# Altium footprint library Discrete.PCBLIB: 128 footprints (part 7 of 8)
Each footprint in its own frame and in the unit in brackets; x right, y up, seen from the top. Pads: shape width x height; smd on the part's side, far side on the other; paste and mask are expansions set on the pad; w line width, h text height; cw(c..) or ccw(c..) is an arc to the next point about the centre after c.
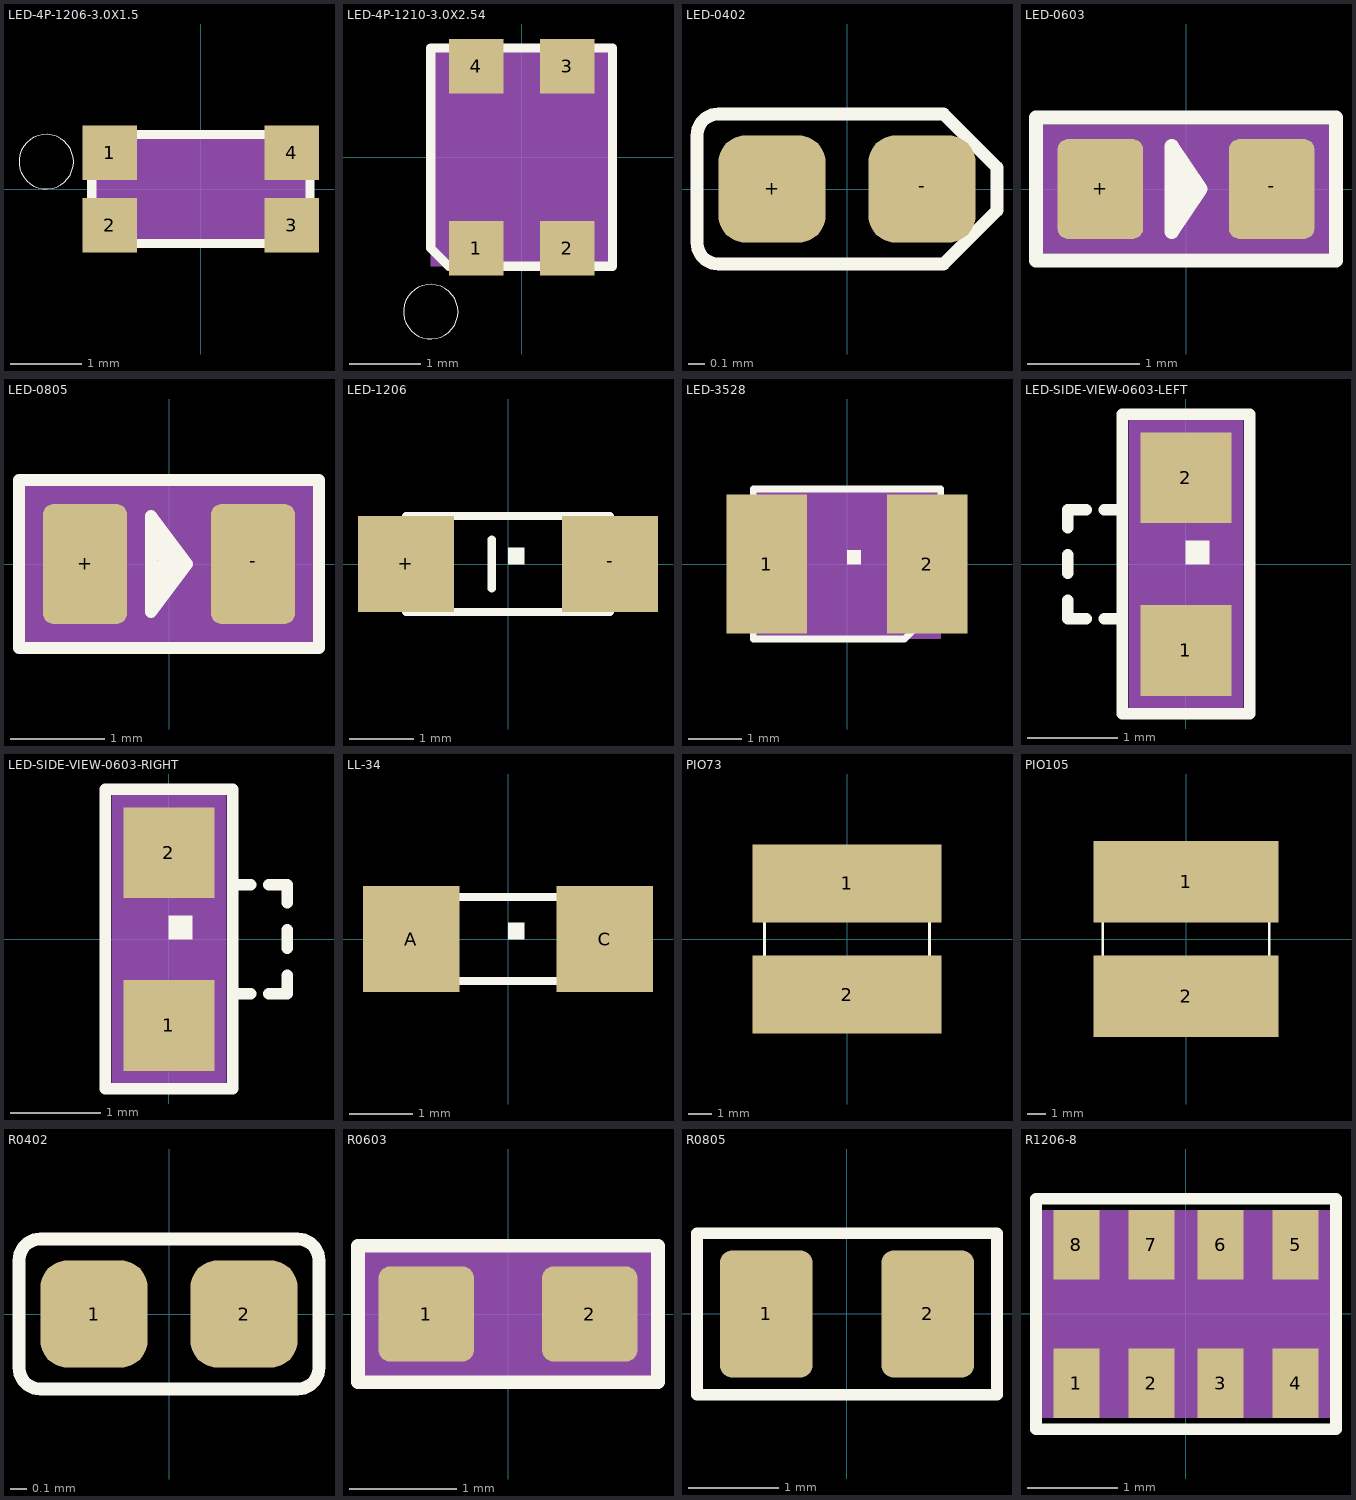
[diagram p6: the footprints below, top view; thin cyan lines are the x and y axes]

## LED-4P-1206-3.0X1.5 [mil]
pads (4):
  rect 30x30 smd: 1(-50,20) 2(-50,-20) 3(50,-20) 4(50,20)
Top Overlay:
  circle w0: c-85,15 r15
  lines w5: -60,-30 -60,20 -50,30 60,30 60,-30 -60,-30
Mechanical 27:
  region: -60,30 -60,-30 60,-30 60,30

## LED-4P-1210-3.0X2.54 [mil]
pads (4):
  rect 30x30 smd: 1(-25,-50) 2(25,-50) 3(25,50) 4(-25,50)
Top Overlay:
  circle w0: c-50,-85 r15
  lines w5: -50,-50 -40,-60 50,-60 50,60 -50,60 -50,-50
Mechanical 27:
  rectangle: -50,-60 50,60

## LED-0402 [mil]
pads (2):
  rrect50% 25x25 smd: +(-17.5,0) -(17.5,0)
Top Overlay:
  lines w3: -35,-12.5 ccw(c-30,-12.5) -30,-17.5 22.5,-17.5 35,-5 35,5 22.5,17.5 -30,17.5 ccw(c-30,12.5) -35,12.5 -35,-12.5

## LED-0603 [mil]
pads (2):
  rrect25% 30x35 smd: +(-30,0) -(30,0)
Top Overlay:
  lines w5: -2.5,-10 -2.5,10 ; 0,-7.5 -5,-15 -5,15 0,7.5 ; 0,-7.5 5,0 0,7.5 ; 0,-7.5 0,7.5 ; -52.5,-25 52.5,-25 52.5,25 -52.5,25 -52.5,-25
Mechanical 27:
  rectangle: -50,-22.5 50,22.5

## LED-0805 [mil]
pads (2):
  rrect25% 35x50 smd: +(-35,0) -(35,0)
Top Overlay:
  lines w5: -7.5,-10 -7.5,0 ; -7.5,-10 -7.5,-20 0,-10 ; -7.5,-10 0,-10 ; -7.5,0 -7.5,10 ; -7.5,0 2.5,-5 -7.5,10 ; -7.5,0 0,-10 ; -7.5,10 -7.5,20 ; -7.5,10 5,-2.5 -7.5,20 ; -7.5,20 7.5,0 0,-10 ; -62.5,-35 62.5,-35 62.5,35 -62.5,35 -62.5,-35
Mechanical 27:
  rectangle: -62.5,-35 62.5,35

## LED-1206 [mil]
pads (2):
  rect 59.06x59.06 smd: +(-62.99,0) -(62.99,0)
Top Overlay:
  region: 0,0 10,0 10,10 0,10
  lines w5: -10,-15 -10,15 ; -62.99,-29.53 62.99,-29.53 62.99,29.53 -62.99,29.53 -62.99,-29.53

## LED-3528 [mil]
pads (2):
  rect 59.06x102.36 smd: 1(-59.06,0) 2(59.06,0)
Top Overlay:
  region: 0,0 10,0 10,10 0,10
  lines w5: -68.9,-55.12 42.25,-55.12 68.9,-28.47 68.9,55.12 -68.9,55.12 -68.9,-55.12
Mechanical 27:
  rectangle: -68.9,-55.12 68.9,55.12

## LED-SIDE-VIEW-0603-LEFT [mm]
pads (2):
  rect 1x1 smd: 1(0,-0.95) 2(0,0.95)
Top Overlay:
  region: 0,0 0.254,0 0.254,0.254 0,0.254
  lines w0.127: -1.3,-0.4 -1.3,-0.6 -1.1,-0.6 ; -1.3,-0.1 -1.3,0.1 ; -1.3,0.4 -1.3,0.6 -1.1,0.6 ; -0.9,-0.6 -0.7,-0.6 ; -0.9,0.6 -0.7,0.6 ; -0.7,-0.6 -0.7,-1.65 0.7,-1.65 0.7,1.651 -0.7,1.65 -0.7,0.6 ; -0.7,-0.6 -0.7,0.6
Mechanical 27:
  region: 0.635,-1.651 0.635,1.651 -0.635,1.651 -0.635,-1.651

## LED-SIDE-VIEW-0603-RIGHT [mm]
pads (2):
  rect 1x1 smd: 1(0,-0.95) 2(0,0.95)
Top Overlay:
  region: 0,0 0.254,0 0.254,0.254 0,0.254
  lines w0.127: 0.7,-0.6 0.9,-0.6 ; 0.7,0.6 0.9,0.6 ; 1.1,-0.6 1.3,-0.6 1.3,-0.4 ; 1.1,0.6 1.3,0.6 1.3,0.4 ; 1.3,-0.1 1.3,0.1 ; -0.7,-1.65 -0.7,1.65 0.7,1.651 0.7,-1.65 -0.7,-1.65
Mechanical 27:
  region: 0.635,-1.651 0.635,1.651 -0.635,1.651 -0.635,-1.651

## LL-34 [mil]
pads (2):
  rect 60x66 smd: A(-60,0) C(60,0)
Top Overlay:
  region: 0,0 10,0 10,10 0,10
  lines w5: -66,-26 66,-26 66,26 -66,26 -66,-26

## PIO73 [mm]
pads (2):
  rect 8x3.3 smd: 1(0,2.35) 2(0,-2.35)
Top Overlay:
  lines w0.127: -3.5,-2 -3.5,2 cw(c-1.3,1.7) -1,3.9 ccw(c0,3.9) 1,3.9 cw(c1.3,1.7) 3.5,2 3.5,-2 cw(c1.3,-1.7) 1,-3.9 ccw(c0,-3.9) -1,-3.9 cw(c-1.3,-1.7) -3.5,-2

## PIO105 [mil]
pads (2):
  rect 393.7x173.23 smd: 1(0,122.05) 2(0,-122.05)
Top Overlay:
  lines w5: -177.17,-100 -177.17,100 cw(c-65.16,84.84) -50,196.85 ccw(c0,196.85) 50,196.85 cw(c65.16,84.84) 177.17,100 177.17,-100 cw(c65.16,-84.84) 50,-196.85 ccw(c0,-196.85) -50,-196.85 cw(c-65.16,-84.84) -177.17,-100

## R0402 [mil]
pads (2):
  rrect50% 25x25 smd: 1(-17.5,0) 2(17.5,0)
Top Overlay:
  lines w3: -35,-12.5 ccw(c-30,-12.5) -30,-17.5 30,-17.5 ccw(c30,-12.5) 35,-12.5 35,12.5 ccw(c30,12.5) 30,17.5 -30,17.5 ccw(c-30,12.5) -35,12.5 -35,-12.5

## R0603 [mil]
pads (2):
  rrect25% 35x35 smd: 1(-30,0) 2(30,0)
Top Overlay:
  lines w5: -55,-25 55,-25 55,25 -55,25 -55,-25
Mechanical 27:
  rectangle: -55,-25 55,25

## R0805 [mil]
pads (2):
  rrect25% 40x55 smd: 1(-35,0) 2(35,0)
Top Overlay:
  lines w5: -65,-35 65,-35 65,35 -65,35 -65,-35

## R1206-8 [mil]
pads (8):
  rect 20x30 smd: 1(-47.5,-30) 2(-15,-30) 3(15,-30) 4(47.5,-30) 5(47.5,30) 6(15,30) 7(-15,30) 8(-47.5,30)
Top Overlay:
  lines w5: -65,-50 65,-50 65,50 -65,50 -65,-50
Mechanical 16:
  lines w4: -61.02,-29.53 -61.02,29.53 -39.37,29.53 ccw(c-31.5,29.53) -23.62,29.53 -7.87,29.53 ccw(c0,29.53) 7.87,29.53 23.62,29.53 ccw(c31.5,29.53) 39.37,29.53 61.02,29.53 61.02,-29.53 39.37,-29.53 ccw(c31.5,-29.53) 23.62,-29.53 7.87,-29.53 ccw(c0,-29.53) -7.87,-29.53 -23.62,-29.53 ccw(c-31.5,-29.53) -39.37,-29.53 -61.02,-29.53
Mechanical 27:
  rectangle: -62.5,-45 62.5,45